# EAGLE library part MOC3061SR2M (library MOC3061SR2M)
Triac & SCR Output Optocouplers 6Pin600V Optocoupler Zero Cross Triac Dr Source: Datasheet <http://www.onsemi.com/pub/Collateral/MOC3163M-D.pdf>
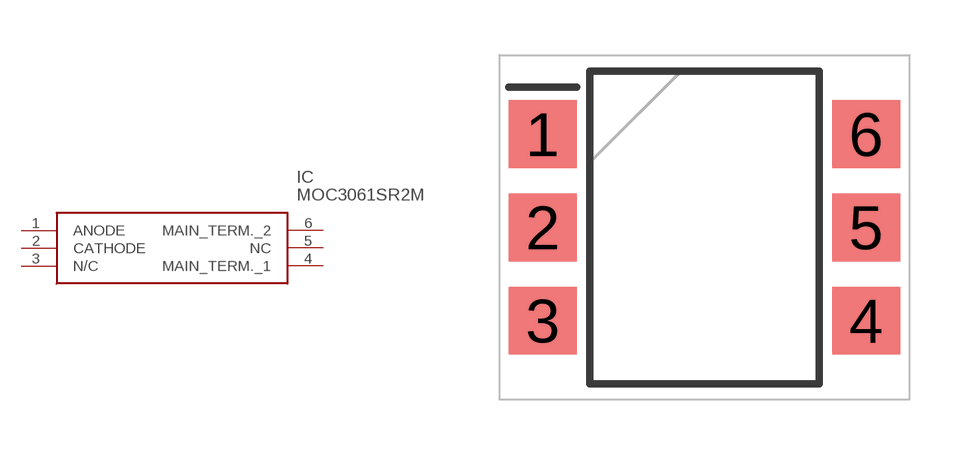
[diagram p0: symbol with the pads of SOT254P916X508-6N; footprint SOT254P916X508-6N]

Designator prefix IC

## MOC3061SR2M (Description: Triac & SCR Output Optocouplers 6Pin600V Optocoupler Zero Cross Triac Dr; Height: 5.08mm; Manufacturer_Name: onsemi; Manufacturer_Part_Number: MOC3061SR2M; Mouser_Part_Number: 512-MOC3061SR2M; Mouser_Price-Stock: https://www.mouser.co.uk/ProductDetail/onsemi-Fairchild/MOC3061SR2M?qs=QsyUFYHC2%2FbVF%2F%252BX5tJ1cA%3D%3D)  [SOT254P916X508-6N]
1  ANODE
2  CATHODE
3  N/C  nc
4  MAIN_TERM._1
5  NC  nc
6  MAIN_TERM._2

## Footprint SOT254P916X508-6N (pad centres in mm)
SMT 6-PIN (LEAD BEND)
smd 1.85 x 1.85: 1 -4.4,2.54; 2 -4.4,0; 3 -4.4,-2.54; 4 4.4,-2.54; 5 4.4,0; 6 4.4,2.54